# Altium schematic symbol library Diode_Lite-On_LTST-C190GKT_eec.SchLib: 1 symbol
Pins are listed as number, name and electrical type; pins without a type are passive.

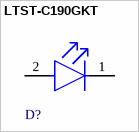
[diagram p0: symbol LTST-C190GKT]

## LTST-C190GKT
designator D?  (value not drawn)
pins: 1 C, 2 A